# Altium schematic symbol library WE-LED_K1A2-2.SchLib: 1 symbol
Pins are listed as number, name and electrical type; pins without a type are passive.

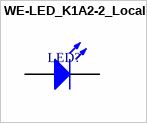
[diagram p0: symbol WE-LED_K1A2-2_Local]

## WE-LED_K1A2-2_Local
designator LED?
footprint 1206_A_LED (Chip LED, 2-Leads, Body 3.2x1.6mm, IPC Medium Density)
pins: 1 K, 2 A